# EAGLE library part ADP1613 (library Custom_old)
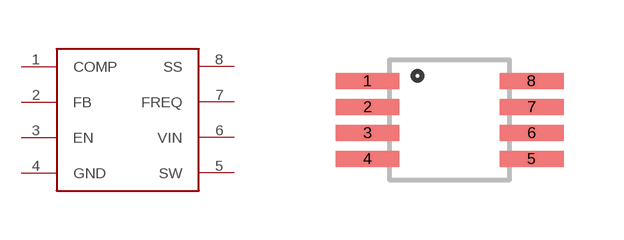
[diagram p3: symbol with the pads of MSOP8; footprint MSOP8]

Designator prefix -

## ADP1613  [MSOP8]
1  COMP
2  FB
3  EN
4  GND
5  SW
6  VIN
7  FREQ
8  SS

## Footprint MSOP8 (pad centres in mm)
smd 1.6 x 0.4: 1 -2.05,0.975; 2 -2.05,0.325; 3 -2.05,-0.325; 4 -2.05,-0.975; 5 2.05,-0.975; 6 2.05,-0.325; 7 2.05,0.325; 8 2.05,0.975